# EAGLE library part LT1113 (library ARVP)
LT1113 Dual Low Noise, Precision, JFET Input Op Amps
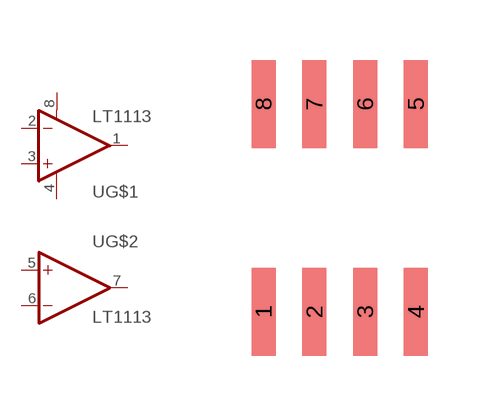
[diagram p18: symbol with the pads of SO-08; footprint SO-08]

Designator prefix -; gates G$1=OP-AMP+- G$2=OP-AMP

## LT1113CS8  [SO-08]
1  G$1:OUT  out
2  G$1:-IN  in
3  G$1:+IN  in
4  G$1:V-  pwr
5  G$2:+IN  in
6  G$2:-IN  in
7  G$2:OUT  out
8  G$1:V+  pwr

## Footprint SO-08 (pad centres in mm)
Small Outline Narrow Plastic Gull Wing 150-mil body, package type SN
smd 0.6 x 2.2: 1 -1.905,-2.6; 2 -0.635,-2.6; 3 0.635,-2.6; 4 1.905,-2.6; 5 1.905,2.6; 6 0.635,2.6; 7 -0.635,2.6; 8 -1.905,2.6